# Altium footprint library TO220-123.PcbLib: 1 footprints
Each footprint in its own frame and in the unit in brackets; x right, y up, seen from the top. Pads: shape width x height; smd on the part's side, far side on the other; paste and mask are expansions set on the pad; w line width, h text height; cw(c..) or ccw(c..) is an arc to the next point about the centre after c.
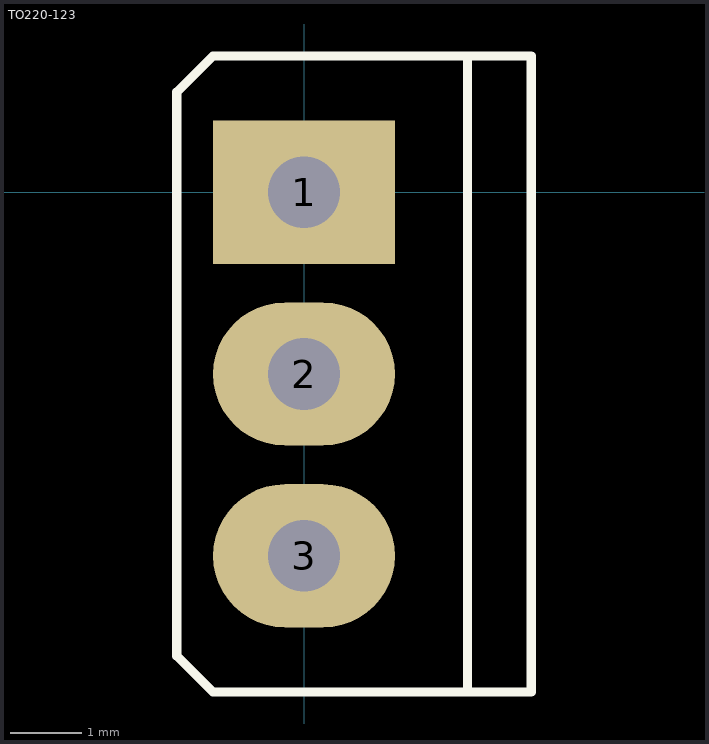
[diagram p0: the footprint, top view; thin cyan lines are the x and y axes]

## TO220-123 [mm]
pads (3):
  rect 2.54x2 hole 1: 1(0,0)
  oval 2.54x2 hole 1: 2(0,-2.54) 3(0,-5.08)
Top Overlay:
  lines w0.127: -1.778,-6.35 -1.778,-6.477 ; -1.778,1.27 -1.778,1.397 ; 1.905,-6.985 3.175,-6.985 3.175,1.905 2.286,1.905 ; -1.778,-6.477 -1.27,-6.985 ; -1.778,-6.477 -1.27,-6.985 ; -1.778,-6.477 -1.778,1.397 ; -1.778,1.397 -1.27,1.905 ; -1.778,1.397 -1.27,1.905 ; -1.27,-6.985 2.286,-6.985 2.286,-6.35 2.286,1.27 2.286,1.905 ; -1.27,1.905 2.286,1.905